# EAGLE library part TL089 (library Projeto_Nicolau)
Amplificador operacional que utiliza JFETs.
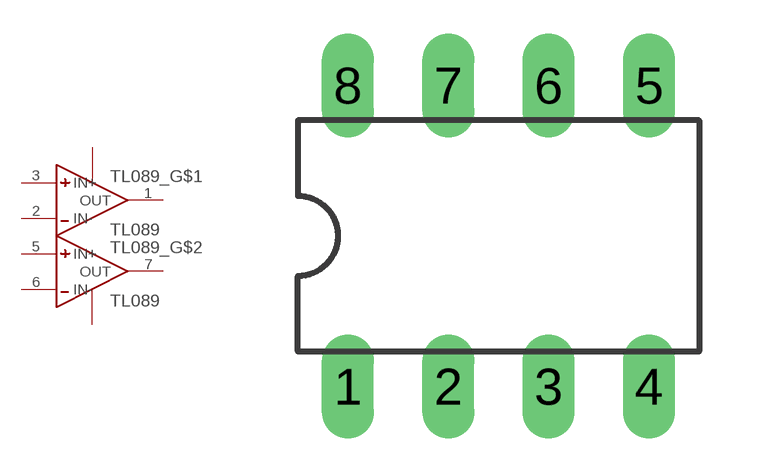
[diagram p7: symbol with the pads of DIP-8; footprint DIP-8]

Designator prefix TL089_; gates G$1=AMPOP G$2=AMPOPGND

## TL089  [DIP-8]
1  G$1:OUT  out
2  G$1:IN-  in
3  G$1:IN+  in
4  G$2:GND/VDD  pwr
5  G$2:IN+  in
6  G$2:IN-  in
7  G$2:OUT  out
8  G$1:VCC  pwr

## Footprint DIP-8 (pad centres in mm)
drill 0.813 long: 1 -6.35,-3.81; 2 -3.81,-3.81; 3 -1.27,-3.81; 4 1.27,-3.81; 5 1.27,3.81; 6 -1.27,3.81; 7 -3.81,3.81; 8 -6.35,3.81